# Altium footprint library PcbLib2.PcbLib: 1 footprints
Each footprint in its own frame and in the unit in brackets; x right, y up, seen from the top. Pads: shape width x height; smd on the part's side, far side on the other; paste and mask are expansions set on the pad; w line width, h text height; cw(c..) or ccw(c..) is an arc to the next point about the centre after c.
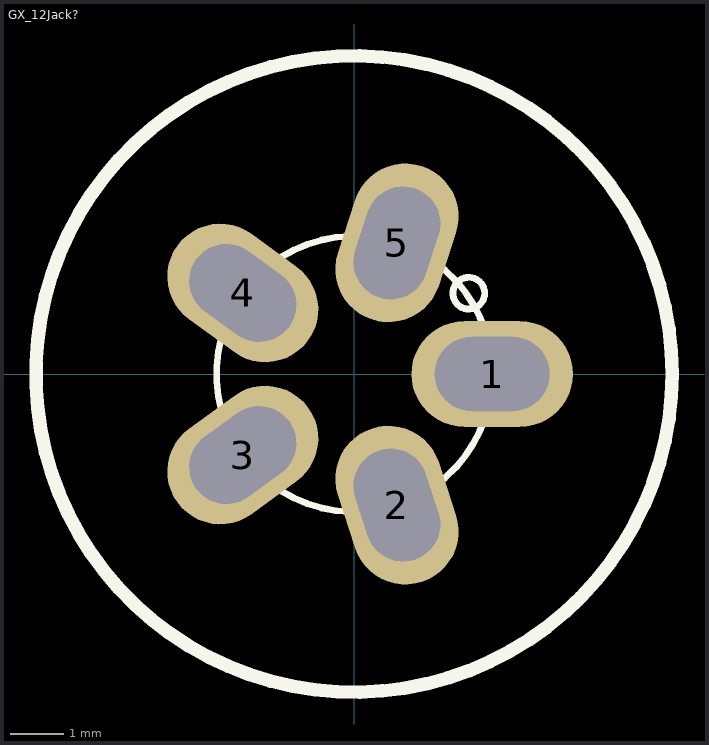
[diagram p0: the footprint, top view; thin cyan lines are the x and y axes]

## GX_12Jack? [mm]
pads (5):
  oval 3.048x2 hole 1.4 slot 2.159 at 0 deg: 1(2.606,0)
  oval 3.048x2 hole 1.4 slot 2.159 at 108 deg rot 108: 2(0.809,-2.473)
  oval 3.048x2 hole 1.4 slot 2.159 at 36 deg rot 36: 3(-2.098,-1.528)
  oval 3.048x2 hole 1.4 slot 2.159 at 144 deg rot 144: 4(-2.098,1.528)
  oval 3.048x2 hole 1.4 slot 2.159 at 72 deg rot 72: 5(0.809,2.473)
Top Overlay:
  circle w0.254: c0,0 r6
  circle w0.127: c0.006,0 r2.6
  circle w0.127: c2.165,1.524 r0.3
3D body "GX12-5P v2.step": height 16.11, standoff -4.59, extent -10.892,-11.103 10.895,11.105